# EAGLE library part TIRADEPINES (library Tira de oines)
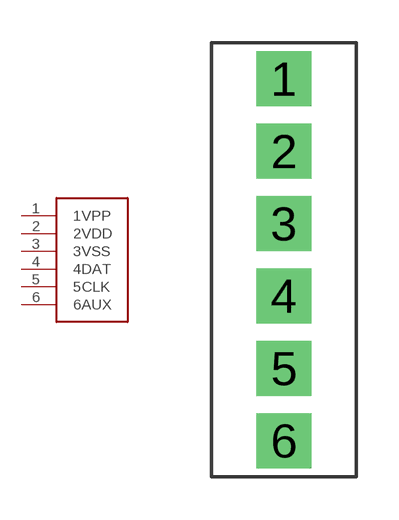
[diagram p0: symbol with the pads of TIRADEPINES; footprint TIRADEPINES]

Designator prefix -

## TIRADEPINES  [TIRADEPINES]
1  1VPP  out
2  2VDD  pwr
3  3VSS  pwr
4  4DAT
5  5CLK  in
6  6AUX  nc

## Footprint TIRADEPINES (pad centres in mm)
drill 0.8 pad 1.93 square: 1 0,5.08; 2 0,2.54; 3 0,0; 4 0,-2.54; 5 0,-5.08; 6 0,-7.62